# EAGLE library part 0430450807 (library con-tyco-micro-mate-n-lok)
8-pin conn
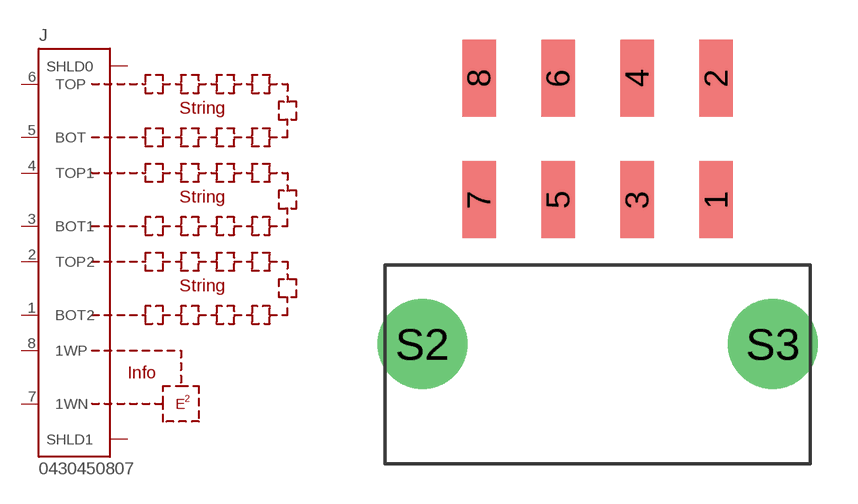
[diagram p2: symbol with the pads of 0430450807; footprint 0430450807]

Designator prefix J

## 0430450807 (DIGIKEY: WM7065CT-ND)  [0430450807]
1  BOT2  pas
2  TOP2  pas
3  BOT1  pas
4  TOP1  pas
5  BOT  pas
6  TOP  pas
7  1WN  pas
8  1WP  pas
S2  SHLD0  pwr
S3  SHLD1  pwr

## Footprint 0430450807 (pad centres in mm)
smd 1.27 x 2.92: 1 4.5,5.48; 2 4.5,10.1; 3 1.5,5.48; 4 1.5,10.1; 5 -1.5,5.48; 6 -1.5,10.1; 7 -4.5,5.48; 8 -4.5,10.1
drill 2.4: S2 -6.65,0; S3 6.65,0